# Altium integrated library WP7113LGD.IntLib: 1 symbol
Pins are listed as number, name and electrical type; pins without a type are passive.

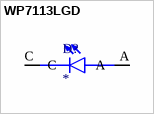
[diagram p0: symbol WP7113LGD]

## WP7113LGD
designator D?
Green 568nm LED Indication - Discrete 1.9V Radial; MP: WP7113LGD; MF: Kingbright; Price: None; SnapEDA_Link: https://www.snapeda.com/parts/WP7113LGD/Kingbright/view-part/?ref=snap; Package: Radial Kingbright; Availability: In Stock; Check_prices: https://www.snapeda.com/parts/WP7113LGD/Kingbright/view-part/?ref=eda; Purchase-URL: https://pricing.snapeda.com/search/part/WP7113LGD/?ref=eda; Value: *
footprint LED_WP7113LGD
pins: A, C